# EAGLE library part SDA004 (library epic)
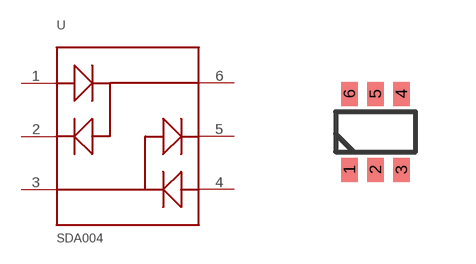
[diagram p28: symbol with the pads of SOT-363; footprint SOT-363]

Designator prefix U

## SDA004  [SOT-363]
1  1
2  2
3  3
4  4
5  5
6  6

## Footprint SOT-363 (pad centres in mm)
smd 0.42 x 0.6: 1 -0.65,-0.95; 2 0,-0.95; 3 0.65,-0.95; 4 0.65,0.95; 5 0,0.95; 6 -0.65,0.95